# Altium footprint library MF_Discrete_Semiconductor.PCBLIB: 4 footprints
Each footprint in its own frame and in the unit in brackets; x right, y up, seen from the top. Pads: shape width x height; smd on the part's side, far side on the other; paste and mask are expansions set on the pad; w line width, h text height; cw(c..) or ccw(c..) is an arc to the next point about the centre after c.
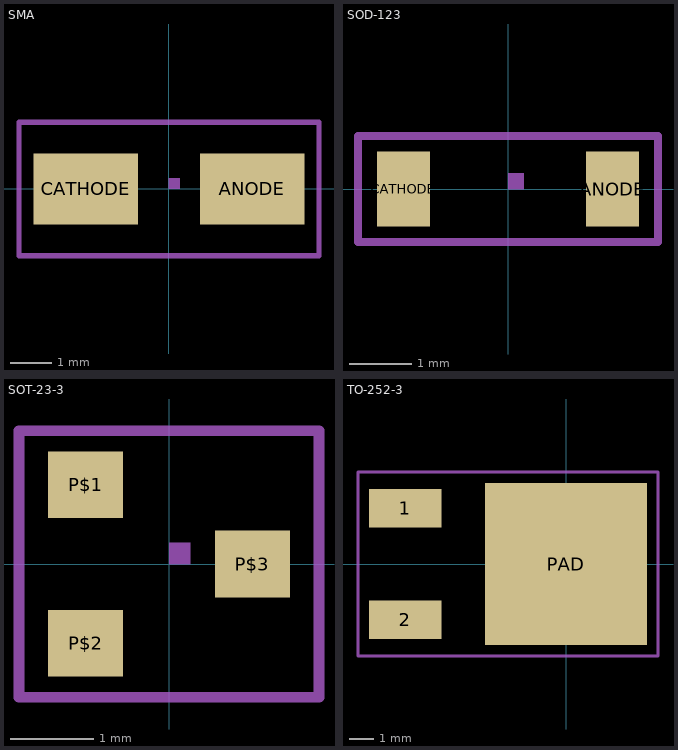
[diagram p0: the footprints below, top view; thin cyan lines are the x and y axes]

## SMA [mm]
pads (2):
  rect 2.5x1.7 smd: ANODE(2,0) CATHODE(-2,0)
Mechanical 22:
  region: 0,0 0.254,0 0.254,0.254 0,0.254
  region: 0,0 0.254,0 0.254,0.254 0,0.254
  lines w0.127: -3.6,-1.6 3.6,-1.6 3.6,1.6 -3.6,1.6 -3.6,-1.6

## SOD-123 [mm]
pads (2):
  rect 0.85x1.2 smd: ANODE(1.675,0) CATHODE(-1.675,0)
Mechanical 22:
  region: 0,0 0.254,0 0.254,0.254 0,0.254
  region: 0,0 0.254,0 0.254,0.254 0,0.254
  lines w0.127: -2.4,-0.85 2.4,-0.85 2.4,0.85 -2.4,0.85 -2.4,-0.85

## SOT-23-3 [mm]
pads (3):
  rect 0.9x0.8 smd: P$1(-1,0.95) P$2(-1,-0.95) P$3(1,0)
Mechanical 22:
  region: 0,0 0.254,0 0.254,0.254 0,0.254
  lines w0.127: -1.8,-1.6 -1.8,1.6 1.8,1.6 1.8,-1.6 -1.8,-1.6

## TO-252-3 [mm]
pads (3):
  rect 3x1.6 smd: 1(-6.65,2.3) 2(-6.65,-2.3)
  rect 6.7x6.7 smd: PAD(0,0)
Mechanical 22:
  lines w0.127: -8.6,-3.8 3.8,-3.8 3.8,3.8 -8.6,3.8 -8.6,-3.8